# Altium footprint library TSW-111-08-G-D-RA.PcbLib: 1 footprints
Each footprint in its own frame and in the unit in brackets; x right, y up, seen from the top. Pads: shape width x height; smd on the part's side, far side on the other; paste and mask are expansions set on the pad; w line width, h text height; cw(c..) or ccw(c..) is an arc to the next point about the centre after c.
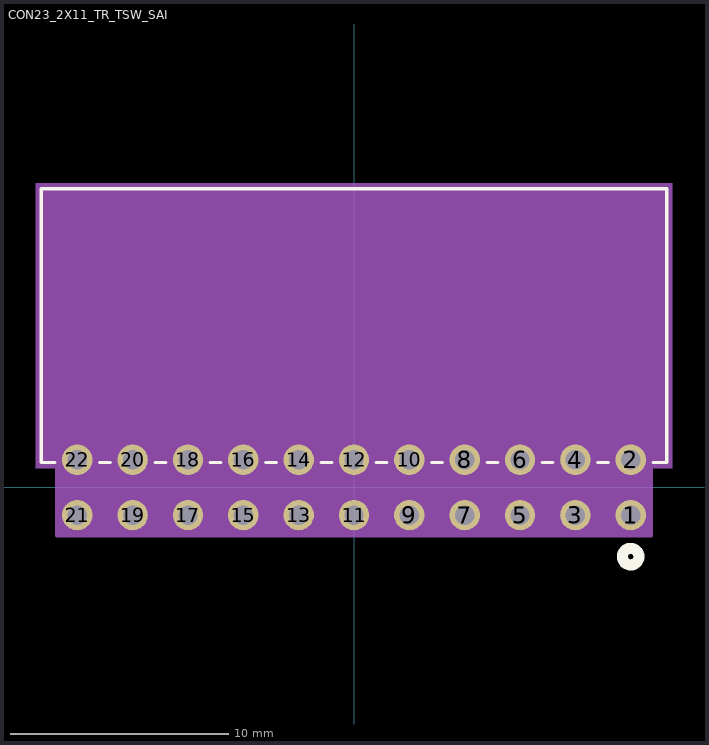
[diagram p0: the footprint, top view; thin cyan lines are the x and y axes]

## CON23_2X11_TR_TSW_SAI [mil]
pads (22):
  round 55 hole 35 mask+0: 1(500,-50) 2(500,50) 3(400,-50) 4(400,50) 5(300,-50) 6(300,50) 7(200,-50) 8(200,50) 9(100,-50) 10(100,50) 11(0,-50) 12(0,50) 13(-100,-50) 14(-100,50) 15(-200,-50) 16(-200,50) 17(-300,-50) 18(-300,50) 19(-400,-50) 20(-400,50) 21(-500,-50) 22(-500,50)
Top Overlay:
  circle w20: c500,-125 r15
  lines w6: -540.29,45 -565,45 -565,540 565,540 565,45 540.29,45 ; -459.71,45 -440.29,45 ; -359.71,45 -340.29,45 ; -259.71,45 -240.29,45 ; -159.71,45 -140.29,45 ; -59.71,45 -40.29,45 ; 40.29,45 59.71,45 ; 140.29,45 159.71,45 ; 240.29,45 259.71,45 ; 340.29,45 359.71,45 ; 440.29,45 459.71,45
Bottom Overlay:
  circle w20: c500,-125 r15
Mechanical 5:
  region: -575,550 575,550 575,35 -575,35
Mechanical 13:
  circle w0: c500,-50 r10
  lines w1: -560,50 560,50 560,535 -560,535 -560,50
Mechanical 15:
  region: 570,545 537.5,545 -537.5,545 -570,545 -570,40 -537.5,40 -537.5,-87.5 537.5,-87.5 537.5,40 570,40
  lines w6: -537.5,545 537.5,545 ; -537.5,545 -537.5,545 ; -537.5,545 -570,545 -570,40 -537.5,40 -537.5,-87.5 537.5,-87.5 537.5,40 570,40 570,545 537.5,545 ; 537.5,545 537.5,545
3D body: height 10, standoff 0, extent 0,0 10,10